# Altium integrated library 0402Capacitor_Yageo.IntLib: 2 symbols
Pins are listed as number, name and electrical type; pins without a type are passive.

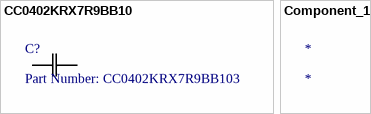
[diagram p0: symbols CC0402KRX7R9BB10 to Component_1]

## CC0402KRX7R9BB10
designator C?, comment Part Number: CC0402KRX7R9BB103
No Description Available; Vendor: Yageo; Built_By: EMA_UL_Team; Type: DEV; Manufacturer_Part_Number: CC0402KRX7R9BB103; Copyright: Copyright (C) 2018 Accelerated Designs. All rights reserved; RefDes: RefDes; Value: Value
footprint YAG_CC0402
pins: 1, 2

## Component_1
designator *